# Altium schematic symbol library Ribbon Interface Schem Symbols.SchLib: 6 symbols
Pins are listed as number, name and electrical type; pins without a type are passive.

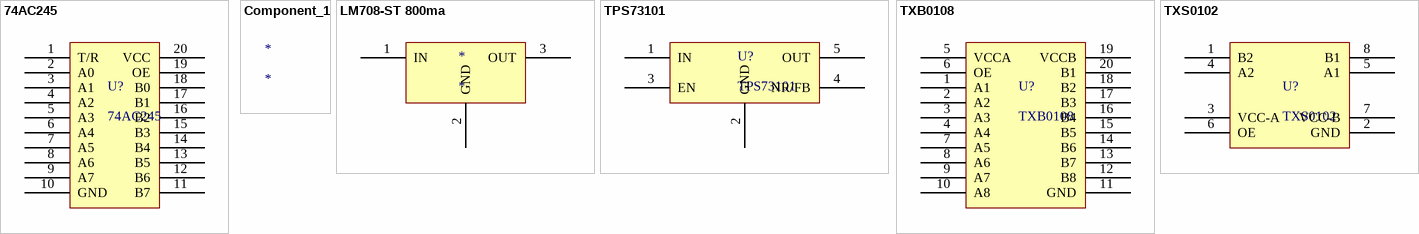
[diagram p0: symbols 74AC245 to TXS0102]

## 74AC245
designator U?
footprint 74AC245 (SOIC, 20-Leads, Body 12.80x7.50mm, Pitch 1.27mm, IPC Medium Density)
pins: 1 T/R, 2 A0, 3 A1, 4 A2, 5 A3, 6 A4, 7 A5, 8 A6, 9 A7, 10 GND, 11 B7, 12 B6, 13 B5, 14 B4, 15 B3, 16 B2, 17 B1, 18 B0, 19 OE, 20 VCC

## Component_1
designator *

## LM708-ST 800ma
designator *
footprint DPAK-3 (Case 369C-01 for MC78xx regulators)
pins: 1 IN, 2 GND, 3 OUT

## TPS73101
designator U?
Ti TPS73101 Adjustable LDO
footprint TPS73101 (SOT23, 5-Leads, Body 2.90x2.80mm, Pitch 0.95mm, IPC Medium Density)
pins: 1 IN, 2 GND, 3 EN, 4 NR/FB, 5 OUT

## TXB0108
designator U?
Ti TXB0108 Bidirectional Level Translator
footprint TXB0108 (TSOP, 20-Leads, Body 6.50x4.40mm, Pitch 0.65mm, IPC Medium Density)
pins: 1 A1, 2 A2, 3 A3, 4 A4, 5 VCCA, 6 OE, 7 A5, 8 A6, 9 A7, 10 A8, 11 GND, 12 B8, 13 B7, 14 B6, 15 B5, 16 B4, 17 B3, 18 B2, 19 VCCB, 20 B1

## TXS0102
designator U?
footprint TXS0102 (TSOP, 8-Leads, Body 2.95x2.80mm, Pitch 0.65mm, IPC Medium Density)
pins: 1 B2, 2 GND, 3 VCC-A, 4 A2, 5 A1, 6 OE, 7 VCC-B, 8 B1